# EAGLE library part MAX1847EEE+ (library MAX1847EEE+)
Switching Controllers High-Efficiency, Current-Mode, Inverting PWM Controller Source: Datasheet <https://datasheet.datasheetarchive.com/originals/dk/DKDS-7/136317.pdf>
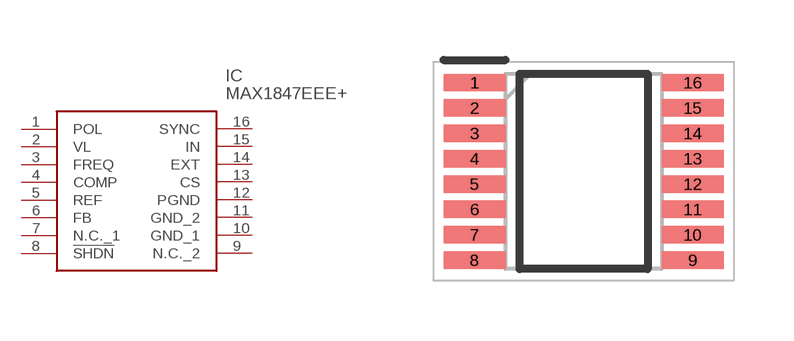
[diagram p0: symbol with the pads of SOP64P602X175-16N; footprint SOP64P602X175-16N]

Designator prefix IC

## MAX1847EEE+ (Description: Switching Controllers High-Efficiency, Current-Mode, Inverting PWM Controller; Height: 1.75mm; Manufacturer_Name: Analog Devices; Manufacturer_Part_Number: MAX1847EEE+; Mouser_Part_Number: 700-MAX1847EEE; Mouser_Price-Stock: https://www.mouser.co.uk/ProductDetail/Maxim-Integrated/MAX1847EEE%2b/?qs=1THa7WoU59Eml5yzvNyVvA%3D%3D)  [SOP64P602X175-16N]
1  POL
2  VL
3  FREQ
4  COMP
5  REF
6  FB
7  N.C._1
8  !SHDN
9  N.C._2
10  GND_1
11  GND_2
12  PGND
13  CS
14  EXT
15  IN
16  SYNC

## Footprint SOP64P602X175-16N (pad centres in mm)
E16+1
smd 1.55 x 0.435: 1 -2.725,2.222; 2 -2.725,1.588; 3 -2.725,0.952; 4 -2.725,0.318; 5 -2.725,-0.318; 6 -2.725,-0.952; 7 -2.725,-1.588; 8 -2.725,-2.222; 9 2.725,-2.222; 10 2.725,-1.588; 11 2.725,-0.952; 12 2.725,-0.318; 13 2.725,0.318; 14 2.725,0.952; 15 2.725,1.588; 16 2.725,2.222